# Altium integrated library Linear Technology Power Management Power-Over-Ethernet (PoE) Interface Controllers.IntLib: 174 symbols (part 12 of 16)
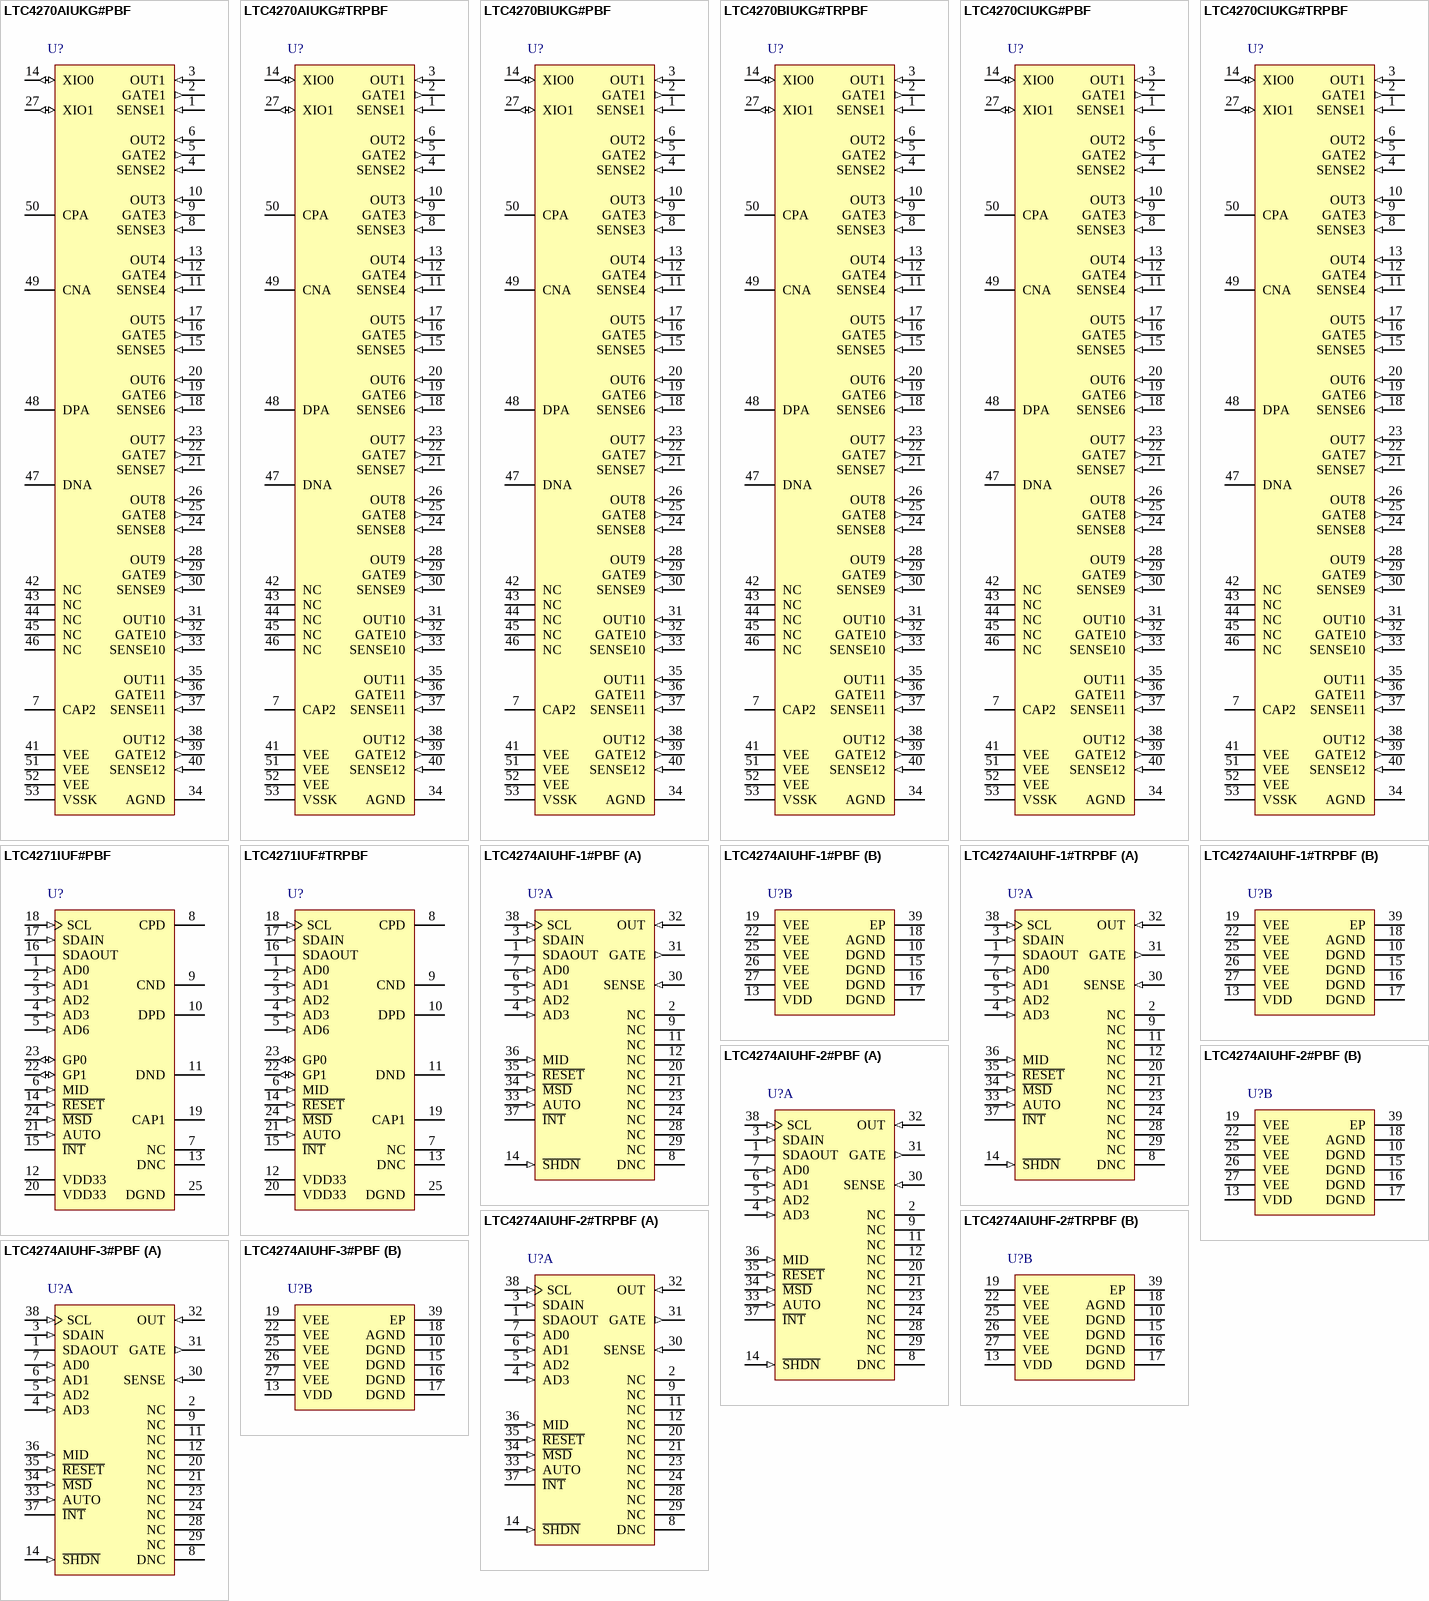
[diagram p19: symbols LTC4270AIUKG#PBF to LTC4274AIUHF-3#PBF]

## LTC4270AIUKG#TRPBF
designator U?
12-Port PoE / PoE+ / LTPoE++ PSE Controller, 52-pin QFN (UKG-52), -40 to 85 degC, Pb-Free, Tape and Reel; Manufacturer: Linear Technology; PartNumber: LTC4270AIUKG#TRPBF; Channels(#): 12; Extended Temp: I; I2C Interface: yes; Max Power(W): 90; PoE Type: 1, 2, LTPoE++; DatasheetVersion: Rev. C; PackageVersion: Rev. Ø, 06/2010; PackageReference: UKG-52; PackageDescription: 52-Pin Plastic QFN, Body 8 x 7 mm, Pitch 0.5 mm; Supplier 1: Newark; Supplier Part Number 1: 59T5709; Packing: Tape and Reel; PSE/PD: PSE; RoHS: TRUE; Mounting Technology: Surface Mount; ComponentLink1Description: Manufacturer URL; ComponentLink1URL: http://www.linear.com/; ComponentLink2Description: Datasheet; ComponentLink2URL: http://cds.linear.com/docs/en/datasheet/42701fc.pdf; ComponentLink3Description: Package Specification; ComponentLink3URL: http://cds.linear.com/docs/en/packaging/QFN_52_05-08-1729.pdf
footprint LT-UKG-52_N (QFN, 52-Leads, Body 8.1x7.1mm, Pitch 0.5mm, Thermal Pad 6.45x5.41mm, IPC Medium Density)
footprint LT-UKG-52_L (QFN, 52-Leads, Body 8.1x7.1mm, Pitch 0.5mm, Thermal Pad 6.45x5.41mm, IPC High Density)
footprint LT-UKG-52_M (QFN, 52-Leads, Body 8.1x7.1mm, Pitch 0.5mm, Thermal Pad 6.45x5.41mm, IPC Low Density)
pins: 1 SENSE1 (in) "Port n Current Sense Input. SENSEn monitors the external MOSFET current via a 0.5ohm or 0.25ohm sense resistor between SENSEn and VEE. Whenever the voltage across the sense resistor exceeds the overcurrent detection (See Datasheet)", 2 GATE1 (out) "Port n Gate Drive. GATEn should be connected to the gate of the external MOSFET for port n. When the MOSFET is turned on, the gate voltage is driven to 12V (typ) above VEE. During a current limit condition, the voltage at (See Datasheet)", 3 OUT1 (in) "Port n Output Voltage Monitor. OUTn should be connected to the output port. A current limit foldback circuit limits the power dissipation in the external MOSFET by reducing the current limit threshold when the (See Datasheet)", 4 SENSE2 (in) "Port n Current Sense Input. SENSEn monitors the external MOSFET current via a 0.5ohm or 0.25ohm sense resistor between SENSEn and VEE. Whenever the voltage across the sense resistor exceeds the overcurrent detection (See Datasheet)", 5 GATE2 (out) "Port n Gate Drive. GATEn should be connected to the gate of the external MOSFET for port n. When the MOSFET is turned on, the gate voltage is driven to 12V (typ) above VEE. During a current limit condition, the voltage at (See Datasheet)", 6 OUT2 (in) "Port n Output Voltage Monitor. OUTn should be connected to the output port. A current limit foldback circuit limits the power dissipation in the external MOSFET by reducing the current limit threshold when the (See Datasheet)", 7 CAP2 "Analog Internal 4.3V Power Supply Bypass Capacitor. Connect 0.1uF ceramic cap to VEE.", 8 SENSE3 (in) "Port n Current Sense Input. SENSEn monitors the external MOSFET current via a 0.5ohm or 0.25ohm sense resistor between SENSEn and VEE. Whenever the voltage across the sense resistor exceeds the overcurrent detection (See Datasheet)", 9 GATE3 (out) "Port n Gate Drive. GATEn should be connected to the gate of the external MOSFET for port n. When the MOSFET is turned on, the gate voltage is driven to 12V (typ) above VEE. During a current limit condition, the voltage at (See Datasheet)", 10 OUT3 (in) "Port n Output Voltage Monitor. OUTn should be connected to the output port. A current limit foldback circuit limits the power dissipation in the external MOSFET by reducing the current limit threshold when the (See Datasheet)", 11 SENSE4 (in) "Port n Current Sense Input. SENSEn monitors the external MOSFET current via a 0.5ohm or 0.25ohm sense resistor between SENSEn and VEE. Whenever the voltage across the sense resistor exceeds the overcurrent detection (See Datasheet)", 12 GATE4 (out) "Port n Gate Drive. GATEn should be connected to the gate of the external MOSFET for port n. When the MOSFET is turned on, the gate voltage is driven to 12V (typ) above VEE. During a current limit condition, the voltage at (See Datasheet)", 13 OUT4 (in) "Port n Output Voltage Monitor. OUTn should be connected to the output port. A current limit foldback circuit limits the power dissipation in the external MOSFET by reducing the current limit threshold when the (See Datasheet)", 14 XIO0 (io) "General Purpose Digital Input Output. Logic signal between VEE and VEE + 4.3V. Internal pull up.", 15 SENSE5 (in) "Port n Current Sense Input. SENSEn monitors the external MOSFET current via a 0.5ohm or 0.25ohm sense resistor between SENSEn and VEE. Whenever the voltage across the sense resistor exceeds the overcurrent detection (See Datasheet)", 16 GATE5 (out) "Port n Gate Drive. GATEn should be connected to the gate of the external MOSFET for port n. When the MOSFET is turned on, the gate voltage is driven to 12V (typ) above VEE. During a current limit condition, the voltage at (See Datasheet)", 17 OUT5 (in) "Port n Output Voltage Monitor. OUTn should be connected to the output port. A current limit foldback circuit limits the power dissipation in the external MOSFET by reducing the current limit threshold when the (See Datasheet)", 18 SENSE6 (in) "Port n Current Sense Input. SENSEn monitors the external MOSFET current via a 0.5ohm or 0.25ohm sense resistor between SENSEn and VEE. Whenever the voltage across the sense resistor exceeds the overcurrent detection (See Datasheet)", 19 GATE6 (out) "Port n Gate Drive. GATEn should be connected to the gate of the external MOSFET for port n. When the MOSFET is turned on, the gate voltage is driven to 12V (typ) above VEE. During a current limit condition, the voltage at (See Datasheet)", 20 OUT6 (in) "Port n Output Voltage Monitor. OUTn should be connected to the output port. A current limit foldback circuit limits the power dissipation in the external MOSFET by reducing the current limit threshold when the (See Datasheet)", 21 SENSE7 (in) "Port n Current Sense Input. SENSEn monitors the external MOSFET current via a 0.5ohm or 0.25ohm sense resistor between SENSEn and VEE. Whenever the voltage across the sense resistor exceeds the overcurrent detection (See Datasheet)", 22 GATE7 (out) "Port n Gate Drive. GATEn should be connected to the gate of the external MOSFET for port n. When the MOSFET is turned on, the gate voltage is driven to 12V (typ) above VEE. During a current limit condition, the voltage at (See Datasheet)", 23 OUT7 (in) "Port n Output Voltage Monitor. OUTn should be connected to the output port. A current limit foldback circuit limits the power dissipation in the external MOSFET by reducing the current limit threshold when the (See Datasheet)", 24 SENSE8 (in) "Port n Current Sense Input. SENSEn monitors the external MOSFET current via a 0.5ohm or 0.25ohm sense resistor between SENSEn and VEE. Whenever the voltage across the sense resistor exceeds the overcurrent detection (See Datasheet)", 25 GATE8 (out) "Port n Gate Drive. GATEn should be connected to the gate of the external MOSFET for port n. When the MOSFET is turned on, the gate voltage is driven to 12V (typ) above VEE. During a current limit condition, the voltage at (See Datasheet)", 26 OUT8 (in) "Port n Output Voltage Monitor. OUTn should be connected to the output port. A current limit foldback circuit limits the power dissipation in the external MOSFET by reducing the current limit threshold when the (See Datasheet)", 27 XIO1 (io) "General Purpose Digital Input Output. Logic signal between VEE and VEE + 4.3V. Internal pull up.", 28 OUT9 (in) "Port n Output Voltage Monitor. OUTn should be connected to the output port. A current limit foldback circuit limits the power dissipation in the external MOSFET by reducing the current limit threshold when the (See Datasheet)", 29 GATE9 (out) "Port n Gate Drive. GATEn should be connected to the gate of the external MOSFET for port n. When the MOSFET is turned on, the gate voltage is driven to 12V (typ) above VEE. During a current limit condition, the voltage at (See Datasheet)", 30 SENSE9 (in) "Port n Current Sense Input. SENSEn monitors the external MOSFET current via a 0.5ohm or 0.25ohm sense resistor between SENSEn and VEE. Whenever the voltage across the sense resistor exceeds the overcurrent detection (See Datasheet)", 31 OUT10 (in) "Port n Output Voltage Monitor. OUTn should be connected to the output port. A current limit foldback circuit limits the power dissipation in the external MOSFET by reducing the current limit threshold when the (See Datasheet)", 32 GATE10 (out) "Port n Gate Drive. GATEn should be connected to the gate of the external MOSFET for port n. When the MOSFET is turned on, the gate voltage is driven to 12V (typ) above VEE. During a current limit condition, the voltage at (See Datasheet)", 33 SENSE10 (in) "Port n Current Sense Input. SENSEn monitors the external MOSFET current via a 0.5ohm or 0.25ohm sense resistor between SENSEn and VEE. Whenever the voltage across the sense resistor exceeds the overcurrent detection (See Datasheet)", 34 AGND (power) "Analog Ground. Connect AGND to the return for the VEE supply.", 35 OUT11 (in) "Port n Output Voltage Monitor. OUTn should be connected to the output port. A current limit foldback circuit limits the power dissipation in the external MOSFET by reducing the current limit threshold when the (See Datasheet)", 36 GATE11 (out) "Port n Gate Drive. GATEn should be connected to the gate of the external MOSFET for port n. When the MOSFET is turned on, the gate voltage is driven to 12V (typ) above VEE. During a current limit condition, the voltage at (See Datasheet)", 37 SENSE11 (in) "Port n Current Sense Input. SENSEn monitors the external MOSFET current via a 0.5ohm or 0.25ohm sense resistor between SENSEn and VEE. Whenever the voltage across the sense resistor exceeds the overcurrent detection (See Datasheet)", 38 OUT12 (in) "Port n Output Voltage Monitor. OUTn should be connected to the output port. A current limit foldback circuit limits the power dissipation in the external MOSFET by reducing the current limit threshold when the (See Datasheet)", 39 GATE12 (out) "Port n Gate Drive. GATEn should be connected to the gate of the external MOSFET for port n. When the MOSFET is turned on, the gate voltage is driven to 12V (typ) above VEE. During a current limit condition, the voltage at (See Datasheet)", 40 SENSE12 (in) "Port n Current Sense Input. SENSEn monitors the external MOSFET current via a 0.5ohm or 0.25ohm sense resistor between SENSEn and VEE. Whenever the voltage across the sense resistor exceeds the overcurrent detection (See Datasheet)", 41 VEE (power) "Main PoE Supply Input. Connect to a -45V to -57V supply, relative to AGND. Voltage depends on PSE type (Type 1, Type 2 or LTPoE++.)", 42 NC "All pins identified with "NC" or "DNC" must be left unconnected.", 43 NC "All pins identified with "NC" or "DNC" must be left unconnected.", 44 NC "All pins identified with "NC" or "DNC" must be left unconnected.", 45 NC "All pins identified with "NC" or "DNC" must be left unconnected.", 46 NC "All pins identified with "NC" or "DNC" must be left unconnected.", 47 DNA "Data Transceiver Negative Input Output (Analog). Connect to DND through a data transformer.", 48 DPA "Data Transceiver Positive Input Output (Analog). Connect to DPD through a data transformer.", 49 CNA "Clock Transceiver Negative Input Output (Analog). Connect to CND through a data transformer.", 50 CPA "Clock Transceiver Positive Input Output (Analog). Connect to CPD through a data transformer.", 51 VEE (power) "Main PoE Supply Input. Connect to a -45V to -57V supply, relative to AGND. Voltage depends on PSE type (Type 1, Type 2 or LTPoE++.)", 52 VEE (power) "Main PoE Supply Input. Connect to a -45V to -57V supply, relative to AGND. Voltage depends on PSE type (Type 1, Type 2 or LTPoE++.)", 53 VSSK (power) "Kelvin Sense to VEE. Connect to sense resistor common node. Do not connect directly to VEE plane. See Layout Guide."

## LTC4270BIUKG#PBF
designator U?
12-Port PoE / PoE+ / LTPoE++ PSE Controller, 52-pin QFN (UKG-52), -40 to 85 degC, Pb-Free; Manufacturer: Linear Technology; PartNumber: LTC4270BIUKG#PBF; Channels(#): 12; Extended Temp: I; I2C Interface: yes; Max Power(W): 25.5; PoE Type: 1, 2, LTPoE++; DatasheetVersion: Rev. C; PackageVersion: Rev. Ø, 06/2010; PackageReference: UKG-52; PackageDescription: 52-Pin Plastic QFN, Body 8 x 7 mm, Pitch 0.5 mm; Supplier 1: Digi-Key; Supplier Part Number 1: LTC4270BIUKG#PBF-ND; Supplier 2: Farnell; Supplier Part Number 2: 2293151; Supplier 3: Newark; Supplier Part Number 3: 59T5710; PSE/PD: PSE; RoHS: TRUE; Mounting Technology: Surface Mount; ComponentLink1Description: Manufacturer URL; ComponentLink1URL: http://www.linear.com/; ComponentLink2Description: Datasheet; ComponentLink2URL: http://cds.linear.com/docs/en/datasheet/42701fc.pdf; ComponentLink3Description: Package Specification; ComponentLink3URL: http://cds.linear.com/docs/en/packaging/QFN_52_05-08-1729.pdf
footprint LT-UKG-52_N (QFN, 52-Leads, Body 8.1x7.1mm, Pitch 0.5mm, Thermal Pad 6.45x5.41mm, IPC Medium Density)
footprint LT-UKG-52_L (QFN, 52-Leads, Body 8.1x7.1mm, Pitch 0.5mm, Thermal Pad 6.45x5.41mm, IPC High Density)
footprint LT-UKG-52_M (QFN, 52-Leads, Body 8.1x7.1mm, Pitch 0.5mm, Thermal Pad 6.45x5.41mm, IPC Low Density)
pins: 1 SENSE1 (in) "Port n Current Sense Input. SENSEn monitors the external MOSFET current via a 0.5ohm or 0.25ohm sense resistor between SENSEn and VEE. Whenever the voltage across the sense resistor exceeds the overcurrent detection (See Datasheet)", 2 GATE1 (out) "Port n Gate Drive. GATEn should be connected to the gate of the external MOSFET for port n. When the MOSFET is turned on, the gate voltage is driven to 12V (typ) above VEE. During a current limit condition, the voltage at (See Datasheet)", 3 OUT1 (in) "Port n Output Voltage Monitor. OUTn should be connected to the output port. A current limit foldback circuit limits the power dissipation in the external MOSFET by reducing the current limit threshold when the (See Datasheet)", 4 SENSE2 (in) "Port n Current Sense Input. SENSEn monitors the external MOSFET current via a 0.5ohm or 0.25ohm sense resistor between SENSEn and VEE. Whenever the voltage across the sense resistor exceeds the overcurrent detection (See Datasheet)", 5 GATE2 (out) "Port n Gate Drive. GATEn should be connected to the gate of the external MOSFET for port n. When the MOSFET is turned on, the gate voltage is driven to 12V (typ) above VEE. During a current limit condition, the voltage at (See Datasheet)", 6 OUT2 (in) "Port n Output Voltage Monitor. OUTn should be connected to the output port. A current limit foldback circuit limits the power dissipation in the external MOSFET by reducing the current limit threshold when the (See Datasheet)", 7 CAP2 "Analog Internal 4.3V Power Supply Bypass Capacitor. Connect 0.1uF ceramic cap to VEE.", 8 SENSE3 (in) "Port n Current Sense Input. SENSEn monitors the external MOSFET current via a 0.5ohm or 0.25ohm sense resistor between SENSEn and VEE. Whenever the voltage across the sense resistor exceeds the overcurrent detection (See Datasheet)", 9 GATE3 (out) "Port n Gate Drive. GATEn should be connected to the gate of the external MOSFET for port n. When the MOSFET is turned on, the gate voltage is driven to 12V (typ) above VEE. During a current limit condition, the voltage at (See Datasheet)", 10 OUT3 (in) "Port n Output Voltage Monitor. OUTn should be connected to the output port. A current limit foldback circuit limits the power dissipation in the external MOSFET by reducing the current limit threshold when the (See Datasheet)", 11 SENSE4 (in) "Port n Current Sense Input. SENSEn monitors the external MOSFET current via a 0.5ohm or 0.25ohm sense resistor between SENSEn and VEE. Whenever the voltage across the sense resistor exceeds the overcurrent detection (See Datasheet)", 12 GATE4 (out) "Port n Gate Drive. GATEn should be connected to the gate of the external MOSFET for port n. When the MOSFET is turned on, the gate voltage is driven to 12V (typ) above VEE. During a current limit condition, the voltage at (See Datasheet)", 13 OUT4 (in) "Port n Output Voltage Monitor. OUTn should be connected to the output port. A current limit foldback circuit limits the power dissipation in the external MOSFET by reducing the current limit threshold when the (See Datasheet)", 14 XIO0 (io) "General Purpose Digital Input Output. Logic signal between VEE and VEE + 4.3V. Internal pull up.", 15 SENSE5 (in) "Port n Current Sense Input. SENSEn monitors the external MOSFET current via a 0.5ohm or 0.25ohm sense resistor between SENSEn and VEE. Whenever the voltage across the sense resistor exceeds the overcurrent detection (See Datasheet)", 16 GATE5 (out) "Port n Gate Drive. GATEn should be connected to the gate of the external MOSFET for port n. When the MOSFET is turned on, the gate voltage is driven to 12V (typ) above VEE. During a current limit condition, the voltage at (See Datasheet)", 17 OUT5 (in) "Port n Output Voltage Monitor. OUTn should be connected to the output port. A current limit foldback circuit limits the power dissipation in the external MOSFET by reducing the current limit threshold when the (See Datasheet)", 18 SENSE6 (in) "Port n Current Sense Input. SENSEn monitors the external MOSFET current via a 0.5ohm or 0.25ohm sense resistor between SENSEn and VEE. Whenever the voltage across the sense resistor exceeds the overcurrent detection (See Datasheet)", 19 GATE6 (out) "Port n Gate Drive. GATEn should be connected to the gate of the external MOSFET for port n. When the MOSFET is turned on, the gate voltage is driven to 12V (typ) above VEE. During a current limit condition, the voltage at (See Datasheet)", 20 OUT6 (in) "Port n Output Voltage Monitor. OUTn should be connected to the output port. A current limit foldback circuit limits the power dissipation in the external MOSFET by reducing the current limit threshold when the (See Datasheet)", 21 SENSE7 (in) "Port n Current Sense Input. SENSEn monitors the external MOSFET current via a 0.5ohm or 0.25ohm sense resistor between SENSEn and VEE. Whenever the voltage across the sense resistor exceeds the overcurrent detection (See Datasheet)", 22 GATE7 (out) "Port n Gate Drive. GATEn should be connected to the gate of the external MOSFET for port n. When the MOSFET is turned on, the gate voltage is driven to 12V (typ) above VEE. During a current limit condition, the voltage at (See Datasheet)", 23 OUT7 (in) "Port n Output Voltage Monitor. OUTn should be connected to the output port. A current limit foldback circuit limits the power dissipation in the external MOSFET by reducing the current limit threshold when the (See Datasheet)", 24 SENSE8 (in) "Port n Current Sense Input. SENSEn monitors the external MOSFET current via a 0.5ohm or 0.25ohm sense resistor between SENSEn and VEE. Whenever the voltage across the sense resistor exceeds the overcurrent detection (See Datasheet)", 25 GATE8 (out) "Port n Gate Drive. GATEn should be connected to the gate of the external MOSFET for port n. When the MOSFET is turned on, the gate voltage is driven to 12V (typ) above VEE. During a current limit condition, the voltage at (See Datasheet)", 26 OUT8 (in) "Port n Output Voltage Monitor. OUTn should be connected to the output port. A current limit foldback circuit limits the power dissipation in the external MOSFET by reducing the current limit threshold when the (See Datasheet)", 27 XIO1 (io) "General Purpose Digital Input Output. Logic signal between VEE and VEE + 4.3V. Internal pull up.", 28 OUT9 (in) "Port n Output Voltage Monitor. OUTn should be connected to the output port. A current limit foldback circuit limits the power dissipation in the external MOSFET by reducing the current limit threshold when the (See Datasheet)", 29 GATE9 (out) "Port n Gate Drive. GATEn should be connected to the gate of the external MOSFET for port n. When the MOSFET is turned on, the gate voltage is driven to 12V (typ) above VEE. During a current limit condition, the voltage at (See Datasheet)", 30 SENSE9 (in) "Port n Current Sense Input. SENSEn monitors the external MOSFET current via a 0.5ohm or 0.25ohm sense resistor between SENSEn and VEE. Whenever the voltage across the sense resistor exceeds the overcurrent detection (See Datasheet)", 31 OUT10 (in) "Port n Output Voltage Monitor. OUTn should be connected to the output port. A current limit foldback circuit limits the power dissipation in the external MOSFET by reducing the current limit threshold when the (See Datasheet)", 32 GATE10 (out) "Port n Gate Drive. GATEn should be connected to the gate of the external MOSFET for port n. When the MOSFET is turned on, the gate voltage is driven to 12V (typ) above VEE. During a current limit condition, the voltage at (See Datasheet)", 33 SENSE10 (in) "Port n Current Sense Input. SENSEn monitors the external MOSFET current via a 0.5ohm or 0.25ohm sense resistor between SENSEn and VEE. Whenever the voltage across the sense resistor exceeds the overcurrent detection (See Datasheet)", 34 AGND (power) "Analog Ground. Connect AGND to the return for the VEE supply.", 35 OUT11 (in) "Port n Output Voltage Monitor. OUTn should be connected to the output port. A current limit foldback circuit limits the power dissipation in the external MOSFET by reducing the current limit threshold when the (See Datasheet)", 36 GATE11 (out) "Port n Gate Drive. GATEn should be connected to the gate of the external MOSFET for port n. When the MOSFET is turned on, the gate voltage is driven to 12V (typ) above VEE. During a current limit condition, the voltage at (See Datasheet)", 37 SENSE11 (in) "Port n Current Sense Input. SENSEn monitors the external MOSFET current via a 0.5ohm or 0.25ohm sense resistor between SENSEn and VEE. Whenever the voltage across the sense resistor exceeds the overcurrent detection (See Datasheet)", 38 OUT12 (in) "Port n Output Voltage Monitor. OUTn should be connected to the output port. A current limit foldback circuit limits the power dissipation in the external MOSFET by reducing the current limit threshold when the (See Datasheet)", 39 GATE12 (out) "Port n Gate Drive. GATEn should be connected to the gate of the external MOSFET for port n. When the MOSFET is turned on, the gate voltage is driven to 12V (typ) above VEE. During a current limit condition, the voltage at (See Datasheet)", 40 SENSE12 (in) "Port n Current Sense Input. SENSEn monitors the external MOSFET current via a 0.5ohm or 0.25ohm sense resistor between SENSEn and VEE. Whenever the voltage across the sense resistor exceeds the overcurrent detection (See Datasheet)", 41 VEE (power) "Main PoE Supply Input. Connect to a -45V to -57V supply, relative to AGND. Voltage depends on PSE type (Type 1, Type 2 or LTPoE++.)", 42 NC "All pins identified with "NC" or "DNC" must be left unconnected.", 43 NC "All pins identified with "NC" or "DNC" must be left unconnected.", 44 NC "All pins identified with "NC" or "DNC" must be left unconnected.", 45 NC "All pins identified with "NC" or "DNC" must be left unconnected.", 46 NC "All pins identified with "NC" or "DNC" must be left unconnected.", 47 DNA "Data Transceiver Negative Input Output (Analog). Connect to DND through a data transformer.", 48 DPA "Data Transceiver Positive Input Output (Analog). Connect to DPD through a data transformer.", 49 CNA "Clock Transceiver Negative Input Output (Analog). Connect to CND through a data transformer.", 50 CPA "Clock Transceiver Positive Input Output (Analog). Connect to CPD through a data transformer.", 51 VEE (power) "Main PoE Supply Input. Connect to a -45V to -57V supply, relative to AGND. Voltage depends on PSE type (Type 1, Type 2 or LTPoE++.)", 52 VEE (power) "Main PoE Supply Input. Connect to a -45V to -57V supply, relative to AGND. Voltage depends on PSE type (Type 1, Type 2 or LTPoE++.)", 53 VSSK (power) "Kelvin Sense to VEE. Connect to sense resistor common node. Do not connect directly to VEE plane. See Layout Guide."

## LTC4270BIUKG#TRPBF
designator U?
12-Port PoE / PoE+ / LTPoE++ PSE Controller, 52-pin QFN (UKG-52), -40 to 85 degC, Pb-Free, Tape and Reel; Manufacturer: Linear Technology; PartNumber: LTC4270BIUKG#TRPBF; Channels(#): 12; Extended Temp: I; I2C Interface: yes; Max Power(W): 25.5; PoE Type: 1, 2, LTPoE++; DatasheetVersion: Rev. C; PackageVersion: Rev. Ø, 06/2010; PackageReference: UKG-52; PackageDescription: 52-Pin Plastic QFN, Body 8 x 7 mm, Pitch 0.5 mm; Supplier 1: Newark; Supplier Part Number 1: 59T5711; Packing: Tape and Reel; PSE/PD: PSE; RoHS: TRUE; Mounting Technology: Surface Mount; ComponentLink1Description: Manufacturer URL; ComponentLink1URL: http://www.linear.com/; ComponentLink2Description: Datasheet; ComponentLink2URL: http://cds.linear.com/docs/en/datasheet/42701fc.pdf; ComponentLink3Description: Package Specification; ComponentLink3URL: http://cds.linear.com/docs/en/packaging/QFN_52_05-08-1729.pdf
footprint LT-UKG-52_N (QFN, 52-Leads, Body 8.1x7.1mm, Pitch 0.5mm, Thermal Pad 6.45x5.41mm, IPC Medium Density)
footprint LT-UKG-52_L (QFN, 52-Leads, Body 8.1x7.1mm, Pitch 0.5mm, Thermal Pad 6.45x5.41mm, IPC High Density)
footprint LT-UKG-52_M (QFN, 52-Leads, Body 8.1x7.1mm, Pitch 0.5mm, Thermal Pad 6.45x5.41mm, IPC Low Density)
pins: 1 SENSE1 (in) "Port n Current Sense Input. SENSEn monitors the external MOSFET current via a 0.5ohm or 0.25ohm sense resistor between SENSEn and VEE. Whenever the voltage across the sense resistor exceeds the overcurrent detection (See Datasheet)", 2 GATE1 (out) "Port n Gate Drive. GATEn should be connected to the gate of the external MOSFET for port n. When the MOSFET is turned on, the gate voltage is driven to 12V (typ) above VEE. During a current limit condition, the voltage at (See Datasheet)", 3 OUT1 (in) "Port n Output Voltage Monitor. OUTn should be connected to the output port. A current limit foldback circuit limits the power dissipation in the external MOSFET by reducing the current limit threshold when the (See Datasheet)", 4 SENSE2 (in) "Port n Current Sense Input. SENSEn monitors the external MOSFET current via a 0.5ohm or 0.25ohm sense resistor between SENSEn and VEE. Whenever the voltage across the sense resistor exceeds the overcurrent detection (See Datasheet)", 5 GATE2 (out) "Port n Gate Drive. GATEn should be connected to the gate of the external MOSFET for port n. When the MOSFET is turned on, the gate voltage is driven to 12V (typ) above VEE. During a current limit condition, the voltage at (See Datasheet)", 6 OUT2 (in) "Port n Output Voltage Monitor. OUTn should be connected to the output port. A current limit foldback circuit limits the power dissipation in the external MOSFET by reducing the current limit threshold when the (See Datasheet)", 7 CAP2 "Analog Internal 4.3V Power Supply Bypass Capacitor. Connect 0.1uF ceramic cap to VEE.", 8 SENSE3 (in) "Port n Current Sense Input. SENSEn monitors the external MOSFET current via a 0.5ohm or 0.25ohm sense resistor between SENSEn and VEE. Whenever the voltage across the sense resistor exceeds the overcurrent detection (See Datasheet)", 9 GATE3 (out) "Port n Gate Drive. GATEn should be connected to the gate of the external MOSFET for port n. When the MOSFET is turned on, the gate voltage is driven to 12V (typ) above VEE. During a current limit condition, the voltage at (See Datasheet)", 10 OUT3 (in) "Port n Output Voltage Monitor. OUTn should be connected to the output port. A current limit foldback circuit limits the power dissipation in the external MOSFET by reducing the current limit threshold when the (See Datasheet)", 11 SENSE4 (in) "Port n Current Sense Input. SENSEn monitors the external MOSFET current via a 0.5ohm or 0.25ohm sense resistor between SENSEn and VEE. Whenever the voltage across the sense resistor exceeds the overcurrent detection (See Datasheet)", 12 GATE4 (out) "Port n Gate Drive. GATEn should be connected to the gate of the external MOSFET for port n. When the MOSFET is turned on, the gate voltage is driven to 12V (typ) above VEE. During a current limit condition, the voltage at (See Datasheet)", 13 OUT4 (in) "Port n Output Voltage Monitor. OUTn should be connected to the output port. A current limit foldback circuit limits the power dissipation in the external MOSFET by reducing the current limit threshold when the (See Datasheet)", 14 XIO0 (io) "General Purpose Digital Input Output. Logic signal between VEE and VEE + 4.3V. Internal pull up.", 15 SENSE5 (in) "Port n Current Sense Input. SENSEn monitors the external MOSFET current via a 0.5ohm or 0.25ohm sense resistor between SENSEn and VEE. Whenever the voltage across the sense resistor exceeds the overcurrent detection (See Datasheet)", 16 GATE5 (out) "Port n Gate Drive. GATEn should be connected to the gate of the external MOSFET for port n. When the MOSFET is turned on, the gate voltage is driven to 12V (typ) above VEE. During a current limit condition, the voltage at (See Datasheet)", 17 OUT5 (in) "Port n Output Voltage Monitor. OUTn should be connected to the output port. A current limit foldback circuit limits the power dissipation in the external MOSFET by reducing the current limit threshold when the (See Datasheet)", 18 SENSE6 (in) "Port n Current Sense Input. SENSEn monitors the external MOSFET current via a 0.5ohm or 0.25ohm sense resistor between SENSEn and VEE. Whenever the voltage across the sense resistor exceeds the overcurrent detection (See Datasheet)", 19 GATE6 (out) "Port n Gate Drive. GATEn should be connected to the gate of the external MOSFET for port n. When the MOSFET is turned on, the gate voltage is driven to 12V (typ) above VEE. During a current limit condition, the voltage at (See Datasheet)", 20 OUT6 (in) "Port n Output Voltage Monitor. OUTn should be connected to the output port. A current limit foldback circuit limits the power dissipation in the external MOSFET by reducing the current limit threshold when the (See Datasheet)", 21 SENSE7 (in) "Port n Current Sense Input. SENSEn monitors the external MOSFET current via a 0.5ohm or 0.25ohm sense resistor between SENSEn and VEE. Whenever the voltage across the sense resistor exceeds the overcurrent detection (See Datasheet)", 22 GATE7 (out) "Port n Gate Drive. GATEn should be connected to the gate of the external MOSFET for port n. When the MOSFET is turned on, the gate voltage is driven to 12V (typ) above VEE. During a current limit condition, the voltage at (See Datasheet)", 23 OUT7 (in) "Port n Output Voltage Monitor. OUTn should be connected to the output port. A current limit foldback circuit limits the power dissipation in the external MOSFET by reducing the current limit threshold when the (See Datasheet)", 24 SENSE8 (in) "Port n Current Sense Input. SENSEn monitors the external MOSFET current via a 0.5ohm or 0.25ohm sense resistor between SENSEn and VEE. Whenever the voltage across the sense resistor exceeds the overcurrent detection (See Datasheet)", 25 GATE8 (out) "Port n Gate Drive. GATEn should be connected to the gate of the external MOSFET for port n. When the MOSFET is turned on, the gate voltage is driven to 12V (typ) above VEE. During a current limit condition, the voltage at (See Datasheet)", 26 OUT8 (in) "Port n Output Voltage Monitor. OUTn should be connected to the output port. A current limit foldback circuit limits the power dissipation in the external MOSFET by reducing the current limit threshold when the (See Datasheet)", 27 XIO1 (io) "General Purpose Digital Input Output. Logic signal between VEE and VEE + 4.3V. Internal pull up.", 28 OUT9 (in) "Port n Output Voltage Monitor. OUTn should be connected to the output port. A current limit foldback circuit limits the power dissipation in the external MOSFET by reducing the current limit threshold when the (See Datasheet)", 29 GATE9 (out) "Port n Gate Drive. GATEn should be connected to the gate of the external MOSFET for port n. When the MOSFET is turned on, the gate voltage is driven to 12V (typ) above VEE. During a current limit condition, the voltage at (See Datasheet)", 30 SENSE9 (in) "Port n Current Sense Input. SENSEn monitors the external MOSFET current via a 0.5ohm or 0.25ohm sense resistor between SENSEn and VEE. Whenever the voltage across the sense resistor exceeds the overcurrent detection (See Datasheet)", 31 OUT10 (in) "Port n Output Voltage Monitor. OUTn should be connected to the output port. A current limit foldback circuit limits the power dissipation in the external MOSFET by reducing the current limit threshold when the (See Datasheet)", 32 GATE10 (out) "Port n Gate Drive. GATEn should be connected to the gate of the external MOSFET for port n. When the MOSFET is turned on, the gate voltage is driven to 12V (typ) above VEE. During a current limit condition, the voltage at (See Datasheet)", 33 SENSE10 (in) "Port n Current Sense Input. SENSEn monitors the external MOSFET current via a 0.5ohm or 0.25ohm sense resistor between SENSEn and VEE. Whenever the voltage across the sense resistor exceeds the overcurrent detection (See Datasheet)", 34 AGND (power) "Analog Ground. Connect AGND to the return for the VEE supply.", 35 OUT11 (in) "Port n Output Voltage Monitor. OUTn should be connected to the output port. A current limit foldback circuit limits the power dissipation in the external MOSFET by reducing the current limit threshold when the (See Datasheet)", 36 GATE11 (out) "Port n Gate Drive. GATEn should be connected to the gate of the external MOSFET for port n. When the MOSFET is turned on, the gate voltage is driven to 12V (typ) above VEE. During a current limit condition, the voltage at (See Datasheet)", 37 SENSE11 (in) "Port n Current Sense Input. SENSEn monitors the external MOSFET current via a 0.5ohm or 0.25ohm sense resistor between SENSEn and VEE. Whenever the voltage across the sense resistor exceeds the overcurrent detection (See Datasheet)", 38 OUT12 (in) "Port n Output Voltage Monitor. OUTn should be connected to the output port. A current limit foldback circuit limits the power dissipation in the external MOSFET by reducing the current limit threshold when the (See Datasheet)", 39 GATE12 (out) "Port n Gate Drive. GATEn should be connected to the gate of the external MOSFET for port n. When the MOSFET is turned on, the gate voltage is driven to 12V (typ) above VEE. During a current limit condition, the voltage at (See Datasheet)", 40 SENSE12 (in) "Port n Current Sense Input. SENSEn monitors the external MOSFET current via a 0.5ohm or 0.25ohm sense resistor between SENSEn and VEE. Whenever the voltage across the sense resistor exceeds the overcurrent detection (See Datasheet)", 41 VEE (power) "Main PoE Supply Input. Connect to a -45V to -57V supply, relative to AGND. Voltage depends on PSE type (Type 1, Type 2 or LTPoE++.)", 42 NC "All pins identified with "NC" or "DNC" must be left unconnected.", 43 NC "All pins identified with "NC" or "DNC" must be left unconnected.", 44 NC "All pins identified with "NC" or "DNC" must be left unconnected.", 45 NC "All pins identified with "NC" or "DNC" must be left unconnected.", 46 NC "All pins identified with "NC" or "DNC" must be left unconnected.", 47 DNA "Data Transceiver Negative Input Output (Analog). Connect to DND through a data transformer.", 48 DPA "Data Transceiver Positive Input Output (Analog). Connect to DPD through a data transformer.", 49 CNA "Clock Transceiver Negative Input Output (Analog). Connect to CND through a data transformer.", 50 CPA "Clock Transceiver Positive Input Output (Analog). Connect to CPD through a data transformer.", 51 VEE (power) "Main PoE Supply Input. Connect to a -45V to -57V supply, relative to AGND. Voltage depends on PSE type (Type 1, Type 2 or LTPoE++.)", 52 VEE (power) "Main PoE Supply Input. Connect to a -45V to -57V supply, relative to AGND. Voltage depends on PSE type (Type 1, Type 2 or LTPoE++.)", 53 VSSK (power) "Kelvin Sense to VEE. Connect to sense resistor common node. Do not connect directly to VEE plane. See Layout Guide."

## LTC4270CIUKG#PBF
designator U?
12-Port PoE / PoE+ / LTPoE++ PSE Controller, 52-pin QFN (UKG-52), -40 to 85 degC, Pb-Free; Manufacturer: Linear Technology; PartNumber: LTC4270CIUKG#PBF; Channels(#): 12; Extended Temp: I; I2C Interface: yes; Max Power(W): 13; PoE Type: 1, 2, LTPoE++; DatasheetVersion: Rev. C; PackageVersion: Rev. Ø, 06/2010; PackageReference: UKG-52; PackageDescription: 52-Pin Plastic QFN, Body 8 x 7 mm, Pitch 0.5 mm; Supplier 1: Digi-Key; Supplier Part Number 1: LTC4270CIUKG#PBF-ND; Supplier 2: Farnell; Supplier Part Number 2: 2293152; Supplier 3: Newark; Supplier Part Number 3: 59T5712; PSE/PD: PSE; RoHS: TRUE; Mounting Technology: Surface Mount; ComponentLink1Description: Manufacturer URL; ComponentLink1URL: http://www.linear.com/; ComponentLink2Description: Datasheet; ComponentLink2URL: http://cds.linear.com/docs/en/datasheet/42701fc.pdf; ComponentLink3Description: Package Specification; ComponentLink3URL: http://cds.linear.com/docs/en/packaging/QFN_52_05-08-1729.pdf
footprint LT-UKG-52_N (QFN, 52-Leads, Body 8.1x7.1mm, Pitch 0.5mm, Thermal Pad 6.45x5.41mm, IPC Medium Density)
footprint LT-UKG-52_L (QFN, 52-Leads, Body 8.1x7.1mm, Pitch 0.5mm, Thermal Pad 6.45x5.41mm, IPC High Density)
footprint LT-UKG-52_M (QFN, 52-Leads, Body 8.1x7.1mm, Pitch 0.5mm, Thermal Pad 6.45x5.41mm, IPC Low Density)
pins: 1 SENSE1 (in) "Port n Current Sense Input. SENSEn monitors the external MOSFET current via a 0.5ohm or 0.25ohm sense resistor between SENSEn and VEE. Whenever the voltage across the sense resistor exceeds the overcurrent detection (See Datasheet)", 2 GATE1 (out) "Port n Gate Drive. GATEn should be connected to the gate of the external MOSFET for port n. When the MOSFET is turned on, the gate voltage is driven to 12V (typ) above VEE. During a current limit condition, the voltage at (See Datasheet)", 3 OUT1 (in) "Port n Output Voltage Monitor. OUTn should be connected to the output port. A current limit foldback circuit limits the power dissipation in the external MOSFET by reducing the current limit threshold when the (See Datasheet)", 4 SENSE2 (in) "Port n Current Sense Input. SENSEn monitors the external MOSFET current via a 0.5ohm or 0.25ohm sense resistor between SENSEn and VEE. Whenever the voltage across the sense resistor exceeds the overcurrent detection (See Datasheet)", 5 GATE2 (out) "Port n Gate Drive. GATEn should be connected to the gate of the external MOSFET for port n. When the MOSFET is turned on, the gate voltage is driven to 12V (typ) above VEE. During a current limit condition, the voltage at (See Datasheet)", 6 OUT2 (in) "Port n Output Voltage Monitor. OUTn should be connected to the output port. A current limit foldback circuit limits the power dissipation in the external MOSFET by reducing the current limit threshold when the (See Datasheet)", 7 CAP2 "Analog Internal 4.3V Power Supply Bypass Capacitor. Connect 0.1uF ceramic cap to VEE.", 8 SENSE3 (in) "Port n Current Sense Input. SENSEn monitors the external MOSFET current via a 0.5ohm or 0.25ohm sense resistor between SENSEn and VEE. Whenever the voltage across the sense resistor exceeds the overcurrent detection (See Datasheet)", 9 GATE3 (out) "Port n Gate Drive. GATEn should be connected to the gate of the external MOSFET for port n. When the MOSFET is turned on, the gate voltage is driven to 12V (typ) above VEE. During a current limit condition, the voltage at (See Datasheet)", 10 OUT3 (in) "Port n Output Voltage Monitor. OUTn should be connected to the output port. A current limit foldback circuit limits the power dissipation in the external MOSFET by reducing the current limit threshold when the (See Datasheet)", 11 SENSE4 (in) "Port n Current Sense Input. SENSEn monitors the external MOSFET current via a 0.5ohm or 0.25ohm sense resistor between SENSEn and VEE. Whenever the voltage across the sense resistor exceeds the overcurrent detection (See Datasheet)", 12 GATE4 (out) "Port n Gate Drive. GATEn should be connected to the gate of the external MOSFET for port n. When the MOSFET is turned on, the gate voltage is driven to 12V (typ) above VEE. During a current limit condition, the voltage at (See Datasheet)", 13 OUT4 (in) "Port n Output Voltage Monitor. OUTn should be connected to the output port. A current limit foldback circuit limits the power dissipation in the external MOSFET by reducing the current limit threshold when the (See Datasheet)", 14 XIO0 (io) "General Purpose Digital Input Output. Logic signal between VEE and VEE + 4.3V. Internal pull up.", 15 SENSE5 (in) "Port n Current Sense Input. SENSEn monitors the external MOSFET current via a 0.5ohm or 0.25ohm sense resistor between SENSEn and VEE. Whenever the voltage across the sense resistor exceeds the overcurrent detection (See Datasheet)", 16 GATE5 (out) "Port n Gate Drive. GATEn should be connected to the gate of the external MOSFET for port n. When the MOSFET is turned on, the gate voltage is driven to 12V (typ) above VEE. During a current limit condition, the voltage at (See Datasheet)", 17 OUT5 (in) "Port n Output Voltage Monitor. OUTn should be connected to the output port. A current limit foldback circuit limits the power dissipation in the external MOSFET by reducing the current limit threshold when the (See Datasheet)", 18 SENSE6 (in) "Port n Current Sense Input. SENSEn monitors the external MOSFET current via a 0.5ohm or 0.25ohm sense resistor between SENSEn and VEE. Whenever the voltage across the sense resistor exceeds the overcurrent detection (See Datasheet)", 19 GATE6 (out) "Port n Gate Drive. GATEn should be connected to the gate of the external MOSFET for port n. When the MOSFET is turned on, the gate voltage is driven to 12V (typ) above VEE. During a current limit condition, the voltage at (See Datasheet)", 20 OUT6 (in) "Port n Output Voltage Monitor. OUTn should be connected to the output port. A current limit foldback circuit limits the power dissipation in the external MOSFET by reducing the current limit threshold when the (See Datasheet)", 21 SENSE7 (in) "Port n Current Sense Input. SENSEn monitors the external MOSFET current via a 0.5ohm or 0.25ohm sense resistor between SENSEn and VEE. Whenever the voltage across the sense resistor exceeds the overcurrent detection (See Datasheet)", 22 GATE7 (out) "Port n Gate Drive. GATEn should be connected to the gate of the external MOSFET for port n. When the MOSFET is turned on, the gate voltage is driven to 12V (typ) above VEE. During a current limit condition, the voltage at (See Datasheet)", 23 OUT7 (in) "Port n Output Voltage Monitor. OUTn should be connected to the output port. A current limit foldback circuit limits the power dissipation in the external MOSFET by reducing the current limit threshold when the (See Datasheet)", 24 SENSE8 (in) "Port n Current Sense Input. SENSEn monitors the external MOSFET current via a 0.5ohm or 0.25ohm sense resistor between SENSEn and VEE. Whenever the voltage across the sense resistor exceeds the overcurrent detection (See Datasheet)", 25 GATE8 (out) "Port n Gate Drive. GATEn should be connected to the gate of the external MOSFET for port n. When the MOSFET is turned on, the gate voltage is driven to 12V (typ) above VEE. During a current limit condition, the voltage at (See Datasheet)", 26 OUT8 (in) "Port n Output Voltage Monitor. OUTn should be connected to the output port. A current limit foldback circuit limits the power dissipation in the external MOSFET by reducing the current limit threshold when the (See Datasheet)", 27 XIO1 (io) "General Purpose Digital Input Output. Logic signal between VEE and VEE + 4.3V. Internal pull up.", 28 OUT9 (in) "Port n Output Voltage Monitor. OUTn should be connected to the output port. A current limit foldback circuit limits the power dissipation in the external MOSFET by reducing the current limit threshold when the (See Datasheet)", 29 GATE9 (out) "Port n Gate Drive. GATEn should be connected to the gate of the external MOSFET for port n. When the MOSFET is turned on, the gate voltage is driven to 12V (typ) above VEE. During a current limit condition, the voltage at (See Datasheet)", 30 SENSE9 (in) "Port n Current Sense Input. SENSEn monitors the external MOSFET current via a 0.5ohm or 0.25ohm sense resistor between SENSEn and VEE. Whenever the voltage across the sense resistor exceeds the overcurrent detection (See Datasheet)", 31 OUT10 (in) "Port n Output Voltage Monitor. OUTn should be connected to the output port. A current limit foldback circuit limits the power dissipation in the external MOSFET by reducing the current limit threshold when the (See Datasheet)", 32 GATE10 (out) "Port n Gate Drive. GATEn should be connected to the gate of the external MOSFET for port n. When the MOSFET is turned on, the gate voltage is driven to 12V (typ) above VEE. During a current limit condition, the voltage at (See Datasheet)", 33 SENSE10 (in) "Port n Current Sense Input. SENSEn monitors the external MOSFET current via a 0.5ohm or 0.25ohm sense resistor between SENSEn and VEE. Whenever the voltage across the sense resistor exceeds the overcurrent detection (See Datasheet)", 34 AGND (power) "Analog Ground. Connect AGND to the return for the VEE supply.", 35 OUT11 (in) "Port n Output Voltage Monitor. OUTn should be connected to the output port. A current limit foldback circuit limits the power dissipation in the external MOSFET by reducing the current limit threshold when the (See Datasheet)", 36 GATE11 (out) "Port n Gate Drive. GATEn should be connected to the gate of the external MOSFET for port n. When the MOSFET is turned on, the gate voltage is driven to 12V (typ) above VEE. During a current limit condition, the voltage at (See Datasheet)", 37 SENSE11 (in) "Port n Current Sense Input. SENSEn monitors the external MOSFET current via a 0.5ohm or 0.25ohm sense resistor between SENSEn and VEE. Whenever the voltage across the sense resistor exceeds the overcurrent detection (See Datasheet)", 38 OUT12 (in) "Port n Output Voltage Monitor. OUTn should be connected to the output port. A current limit foldback circuit limits the power dissipation in the external MOSFET by reducing the current limit threshold when the (See Datasheet)", 39 GATE12 (out) "Port n Gate Drive. GATEn should be connected to the gate of the external MOSFET for port n. When the MOSFET is turned on, the gate voltage is driven to 12V (typ) above VEE. During a current limit condition, the voltage at (See Datasheet)", 40 SENSE12 (in) "Port n Current Sense Input. SENSEn monitors the external MOSFET current via a 0.5ohm or 0.25ohm sense resistor between SENSEn and VEE. Whenever the voltage across the sense resistor exceeds the overcurrent detection (See Datasheet)", 41 VEE (power) "Main PoE Supply Input. Connect to a -45V to -57V supply, relative to AGND. Voltage depends on PSE type (Type 1, Type 2 or LTPoE++.)", 42 NC "All pins identified with "NC" or "DNC" must be left unconnected.", 43 NC "All pins identified with "NC" or "DNC" must be left unconnected.", 44 NC "All pins identified with "NC" or "DNC" must be left unconnected.", 45 NC "All pins identified with "NC" or "DNC" must be left unconnected.", 46 NC "All pins identified with "NC" or "DNC" must be left unconnected.", 47 DNA "Data Transceiver Negative Input Output (Analog). Connect to DND through a data transformer.", 48 DPA "Data Transceiver Positive Input Output (Analog). Connect to DPD through a data transformer.", 49 CNA "Clock Transceiver Negative Input Output (Analog). Connect to CND through a data transformer.", 50 CPA "Clock Transceiver Positive Input Output (Analog). Connect to CPD through a data transformer.", 51 VEE (power) "Main PoE Supply Input. Connect to a -45V to -57V supply, relative to AGND. Voltage depends on PSE type (Type 1, Type 2 or LTPoE++.)", 52 VEE (power) "Main PoE Supply Input. Connect to a -45V to -57V supply, relative to AGND. Voltage depends on PSE type (Type 1, Type 2 or LTPoE++.)", 53 VSSK (power) "Kelvin Sense to VEE. Connect to sense resistor common node. Do not connect directly to VEE plane. See Layout Guide."